# EAGLE library part EFM32G840F64 (library EnergyMicro)
EFM32G840F64 Gecko Microcontroller in 9mm x 9mm QFN64 package
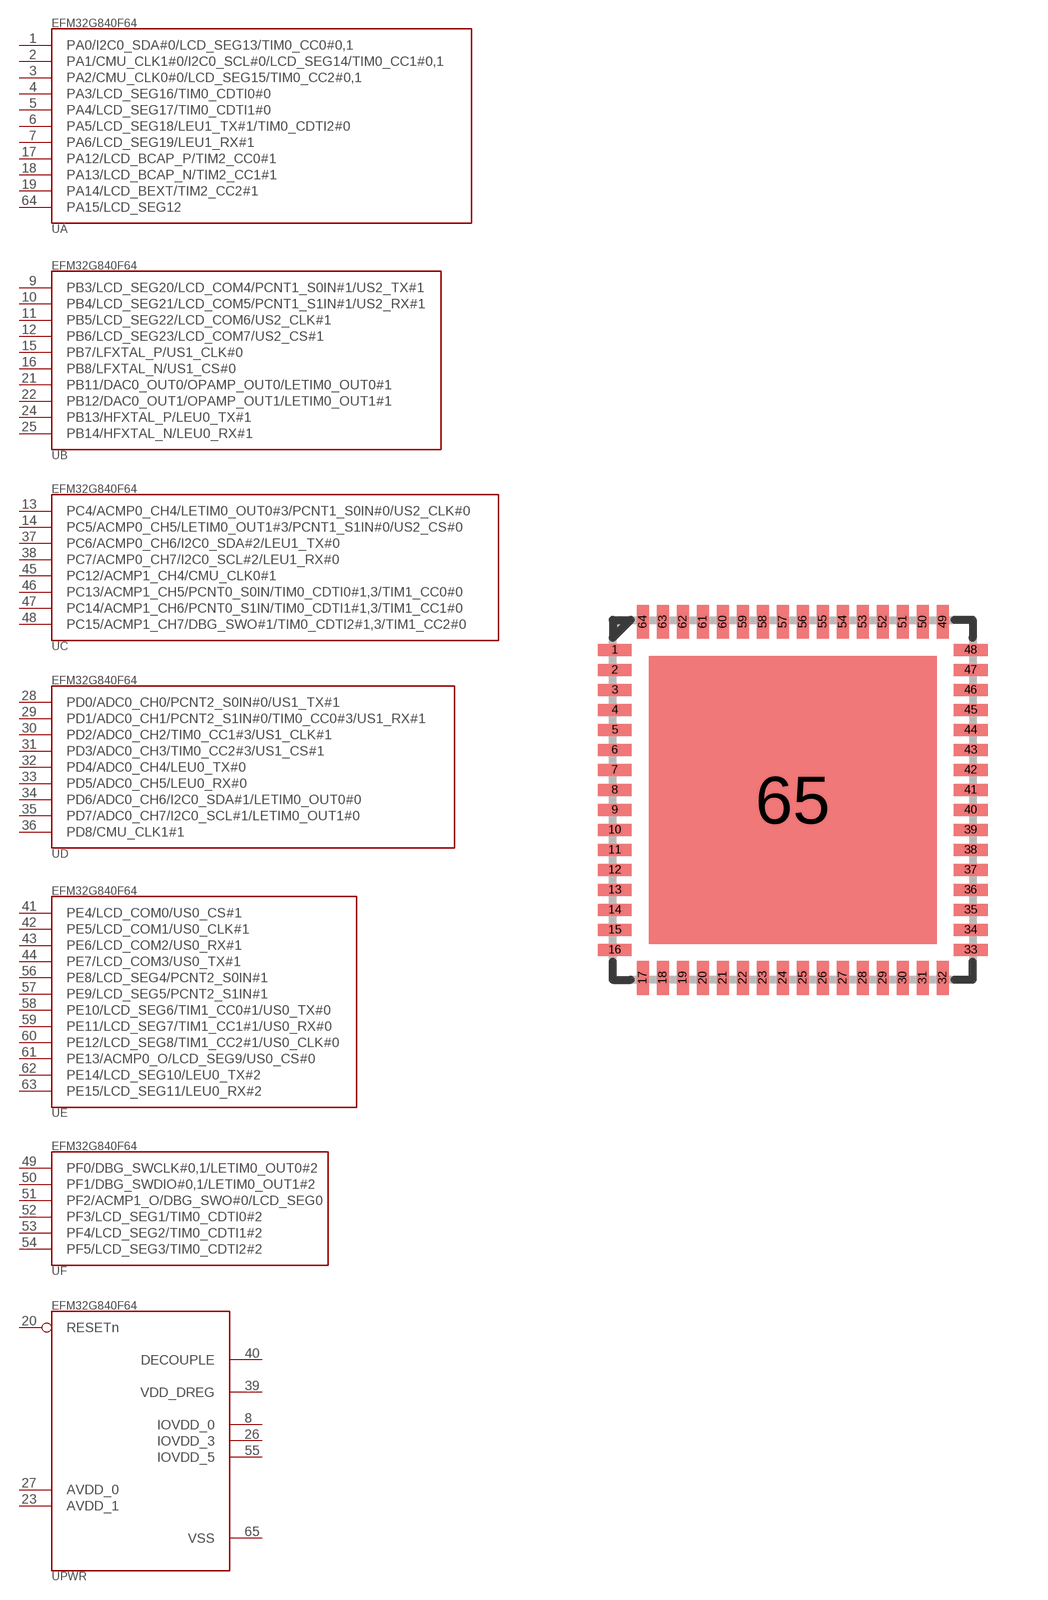
[diagram p21: symbol with the pads of QFN64; footprint QFN64]

Designator prefix -; gates A=EFM32G840F64_A B=EFM32G840F64_B C=EFM32G840F64_C D=EFM32G840F64_D E=EFM32G840F64_E F=EFM32G840F64_F PWR=EFM32G840F64_PWR

## EFM32G840F64  [QFN64]
1  A:PA0/I2C0_SDA#0/LCD_SEG13/TIM0_CC0#0,1
2  A:PA1/CMU_CLK1#0/I2C0_SCL#0/LCD_SEG14/TIM0_CC1#0,1
3  A:PA2/CMU_CLK0#0/LCD_SEG15/TIM0_CC2#0,1
4  A:PA3/LCD_SEG16/TIM0_CDTI0#0
5  A:PA4/LCD_SEG17/TIM0_CDTI1#0
6  A:PA5/LCD_SEG18/LEU1_TX#1/TIM0_CDTI2#0
7  A:PA6/LCD_SEG19/LEU1_RX#1
8  PWR:IOVDD_0  pwr
9  B:PB3/LCD_SEG20/LCD_COM4/PCNT1_S0IN#1/US2_TX#1
10  B:PB4/LCD_SEG21/LCD_COM5/PCNT1_S1IN#1/US2_RX#1
11  B:PB5/LCD_SEG22/LCD_COM6/US2_CLK#1
12  B:PB6/LCD_SEG23/LCD_COM7/US2_CS#1
13  C:PC4/ACMP0_CH4/LETIM0_OUT0#3/PCNT1_S0IN#0/US2_CLK#0
14  C:PC5/ACMP0_CH5/LETIM0_OUT1#3/PCNT1_S1IN#0/US2_CS#0
15  B:PB7/LFXTAL_P/US1_CLK#0
16  B:PB8/LFXTAL_N/US1_CS#0
17  A:PA12/LCD_BCAP_P/TIM2_CC0#1
18  A:PA13/LCD_BCAP_N/TIM2_CC1#1
19  A:PA14/LCD_BEXT/TIM2_CC2#1
20  PWR:RESETn  pas
21  B:PB11/DAC0_OUT0/OPAMP_OUT0/LETIM0_OUT0#1
22  B:PB12/DAC0_OUT1/OPAMP_OUT1/LETIM0_OUT1#1
23  PWR:AVDD_1  pwr
24  B:PB13/HFXTAL_P/LEU0_TX#1
25  B:PB14/HFXTAL_N/LEU0_RX#1
26  PWR:IOVDD_3  pwr
27  PWR:AVDD_0  pwr
28  D:PD0/ADC0_CH0/PCNT2_S0IN#0/US1_TX#1
29  D:PD1/ADC0_CH1/PCNT2_S1IN#0/TIM0_CC0#3/US1_RX#1
30  D:PD2/ADC0_CH2/TIM0_CC1#3/US1_CLK#1
31  D:PD3/ADC0_CH3/TIM0_CC2#3/US1_CS#1
32  D:PD4/ADC0_CH4/LEU0_TX#0
33  D:PD5/ADC0_CH5/LEU0_RX#0
34  D:PD6/ADC0_CH6/I2C0_SDA#1/LETIM0_OUT0#0
35  D:PD7/ADC0_CH7/I2C0_SCL#1/LETIM0_OUT1#0
36  D:PD8/CMU_CLK1#1
37  C:PC6/ACMP0_CH6/I2C0_SDA#2/LEU1_TX#0
38  C:PC7/ACMP0_CH7/I2C0_SCL#2/LEU1_RX#0
39  PWR:VDD_DREG  pwr
40  PWR:DECOUPLE  pwr
41  E:PE4/LCD_COM0/US0_CS#1
42  E:PE5/LCD_COM1/US0_CLK#1
43  E:PE6/LCD_COM2/US0_RX#1
44  E:PE7/LCD_COM3/US0_TX#1
45  C:PC12/ACMP1_CH4/CMU_CLK0#1
46  C:PC13/ACMP1_CH5/PCNT0_S0IN/TIM0_CDTI0#1,3/TIM1_CC0#0
47  C:PC14/ACMP1_CH6/PCNT0_S1IN/TIM0_CDTI1#1,3/TIM1_CC1#0
48  C:PC15/ACMP1_CH7/DBG_SWO#1/TIM0_CDTI2#1,3/TIM1_CC2#0
49  F:PF0/DBG_SWCLK#0,1/LETIM0_OUT0#2
50  F:PF1/DBG_SWDIO#0,1/LETIM0_OUT1#2
51  F:PF2/ACMP1_O/DBG_SWO#0/LCD_SEG0
52  F:PF3/LCD_SEG1/TIM0_CDTI0#2
53  F:PF4/LCD_SEG2/TIM0_CDTI1#2
54  F:PF5/LCD_SEG3/TIM0_CDTI2#2
55  PWR:IOVDD_5  pwr
56  E:PE8/LCD_SEG4/PCNT2_S0IN#1
57  E:PE9/LCD_SEG5/PCNT2_S1IN#1
58  E:PE10/LCD_SEG6/TIM1_CC0#1/US0_TX#0
59  E:PE11/LCD_SEG7/TIM1_CC1#1/US0_RX#0
60  E:PE12/LCD_SEG8/TIM1_CC2#1/US0_CLK#0
61  E:PE13/ACMP0_O/LCD_SEG9/US0_CS#0
62  E:PE14/LCD_SEG10/LEU0_TX#2
63  E:PE15/LCD_SEG11/LEU0_RX#2
64  A:PA15/LCD_SEG12
65  PWR:VSS  pwr

## Footprint QFN64 (pad centres in mm)
smd 0.85 x 0.3: 1 -4.45,3.75; 2 -4.45,3.25; 3 -4.45,2.75; 4 -4.45,2.25; 5 -4.45,1.75; 6 -4.45,1.25; 7 -4.45,0.75; 8 -4.45,0.25; 9 -4.45,-0.25; 10 -4.45,-0.75; 11 -4.45,-1.25; 12 -4.45,-1.75; 13 -4.45,-2.25; 14 -4.45,-2.75; 15 -4.45,-3.25; 16 -4.45,-3.75; 33 4.45,-3.75; 34 4.45,-3.25; 35 4.45,-2.75; 36 4.45,-2.25; 37 4.45,-1.75; 38 4.45,-1.25; 39 4.45,-0.75; 40 4.45,-0.25; 41 4.45,0.25; 42 4.45,0.75; 43 4.45,1.25; 44 4.45,1.75; 45 4.45,2.25; 46 4.45,2.75; 47 4.45,3.25; 48 4.45,3.75
smd 0.3 x 0.85: 17 -3.75,-4.45; 18 -3.25,-4.45; 19 -2.75,-4.45; 20 -2.25,-4.45; 21 -1.75,-4.45; 22 -1.25,-4.45; 23 -0.75,-4.45; 24 -0.25,-4.45; 25 0.25,-4.45; 26 0.75,-4.45; 27 1.25,-4.45; 28 1.75,-4.45; 29 2.25,-4.45; 30 2.75,-4.45; 31 3.25,-4.45; 32 3.75,-4.45; 49 3.75,4.45; 50 3.25,4.45; 51 2.75,4.45; 52 2.25,4.45; 53 1.75,4.45; 54 1.25,4.45; 55 0.75,4.45; 56 0.25,4.45; 57 -0.25,4.45; 58 -0.75,4.45; 59 -1.25,4.45; 60 -1.75,4.45; 61 -2.25,4.45; 62 -2.75,4.45; 63 -3.25,4.45; 64 -3.75,4.45
smd 7.2 x 7.2: 65 0,0